# Altium schematic symbol library Display.SchLib: 3 symbols
Pins are listed as number, name and electrical type; pins without a type are passive.

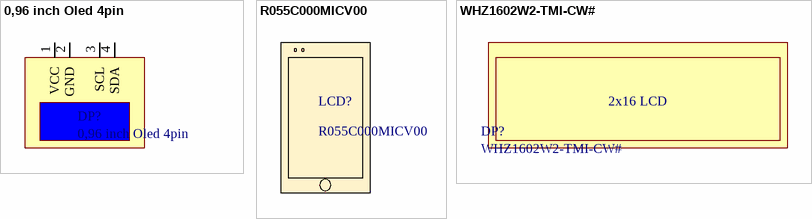
[diagram p0: symbols 0,96 inch Oled 4pin to WHZ1602W2-TMI-CW#]

## 0,96 inch Oled 4pin
designator DP?
China 4pin I2C 0,96 inch OLED; Purpose Of Usage: BASIC; Category: DISPLAY; Manufacturer: CHINA; Manufacturer Part Number: 0,96 inch; Supplier 1: Aliexpress; Supplier Part Number 1: ----; Mount: MECH; Sub-Category: OLED; Local Supplier: Özdisan; Price 10K: 1.5; Size: 0.96 inch; SAP Tanım: -; Stock ID: ??
footprint Oled 0.96 inch
pins: 1 VCC, 2 GND, 3 SCL, 4 SDA

## R055C000MICV00
designator LCD?
5.5" LCD CAP TOUCH; Manufacturer: RCL DISPLAY LTD; Category: DISPLAY; Local Supplier: FUTURE; Manufacturer Part Number: R055C000MICV00; Mount: MECH; Price 10K: 16.9; Purpose Of Usage: LCD; Size: 5.5 inch; Sub-Category: LCD-TFT; SAP Tanım: -; Stock ID: ??
footprint KEC Display

## WHZ1602W2-TMI-CW#
designator DP?
LCD MOD 16*2 80X36X10MM LEDB.LIGHT WHITE; Manufacturer: WINSTAR; Purpose Of Usage: BASIC; Category: DISPLAY; Manufacturer Part Number: WHZ1602W2-TMI-CW#; Supplier 1: Özdisan; Supplier Part Number 1: WHZ1602W2-TMI-CW#; Mount: MECH; Sub-Category: LCD-CHACTER; Local Supplier: Özdisan; Price 10K: 2; Size: 2x16 char; SAP Tanım: -; Stock ID: ??
footprint WHZ1602W2-TMI-CW#
text: 2x16 LCD